# Altium schematic symbol library RS3412 XH6-Q1.Schlib: 1 symbol
Pins are listed as number, name and electrical type; pins without a type are passive.

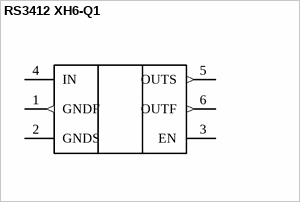
[diagram p0: symbol RS3412 XH6-Q1]

## RS3412 XH6-Q1
designator DD?
Driver
pins: 1 GNDF (out), 2 GNDS (power), 3 EN (power), 4 IN (power), 5 OUTS (out), 6 OUTF (out)